# Altium schematic symbol library LT1818CS8#PBF.SchLib: 1 symbol
Pins are listed as number, name and electrical type; pins without a type are passive.

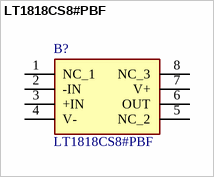
[diagram p0: symbol LT1818CS8#PBF]

## LT1818CS8#PBF
designator B?
LT1818CS8#PBF, Operational Amplifier Voltage Feedback 360MHz, 12 V, 5 V, 9 V, 8-Pin SOIC; Manufacturer_Name: Analog Devices; Geometry.Height: 1.752mm; Mouser Part Number: 584-LT1818CS8#PBF; Mouser Price/Stock: https://www.mouser.co.uk/ProductDetail/Analog-Devices/LT1818CS8PBF?qs=ytflclh7QUUppAef0n%252BGjw%3D%3D; Manufacturer_Part_Number: LT1818CS8#PBF; Datasheet Link: http://cds.linear.com/docs/en/datasheet/18189fb.pdf
footprint SOIC127P599X175-8N
pins: 1 NC_1, 2 -IN, 3 +IN, 4 V-, 5 NC_2, 6 OUT, 7 V+, 8 NC_3